# EAGLE library part IW1700 (library IC & Transistor)
Zero Power No-Load Off-Line Digital PWM Controller. Created by: Wai Weng
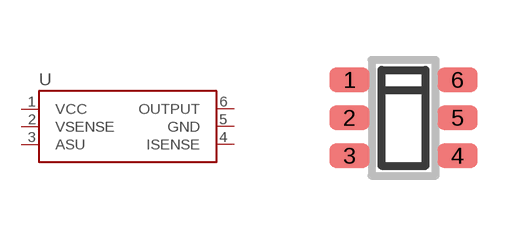
[diagram p40: symbol with the pads of SOT-23-6; footprint SOT-23-6]

Designator prefix U

## IW1700 (DESC: S PWM Controller IW1700 SOT23-6; MF: iWatt; MPN: iW1700-01)  [SOT-23-6]
1  VCC
2  VSENSE
3  ASU
4  ISENSE
5  GND
6  OUTPUT

## Footprint SOT-23-6 (pad centres in mm)
Small Outline Transistor - 6 Pins (SOT-23-6). Size: 2.9 x 1.6mm Modified by: Wai Weng
smd 1 x 0.6: 1 -1.35,0.95; 2 -1.35,0; 3 -1.35,-0.95; 4 1.35,-0.95; 5 1.35,0; 6 1.35,0.95